# Altium schematic symbol library fiducial.SchLib: 1 symbol
Pins are listed as number, name and electrical type; pins without a type are passive.

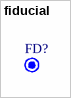
[diagram p0: symbol fiducial]

## fiducial
designator FD?  (value not drawn)
Value: *